# EAGLE library part NCHX2 (library FETs)
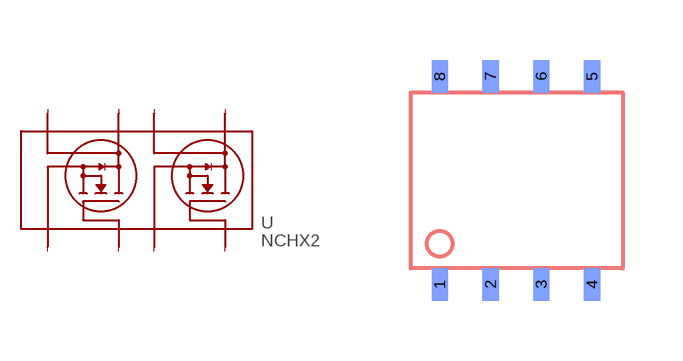
[diagram p0: symbol with the pads of SOP8; footprint SOP8]

Designator prefix -

## NCHX2  [SOP8]
1  1  pas
2  2  pas
3  3  pas
4  4  pas
5  5  pas
6  6  pas
7  7  pas
8  8  pas

## Footprint SOP8 (pad centres in mm)
smd 0.406 x 0.813 bottom: 1 -1.905,-2.6; 2 -0.635,-2.6; 3 0.635,-2.6; 4 1.905,-2.6; 5 1.905,2.6; 6 0.635,2.6; 7 -0.635,2.6; 8 -1.905,2.6